# EAGLE library part EZ-USB-2131Q (library cypress)
Microcontroller with USB port
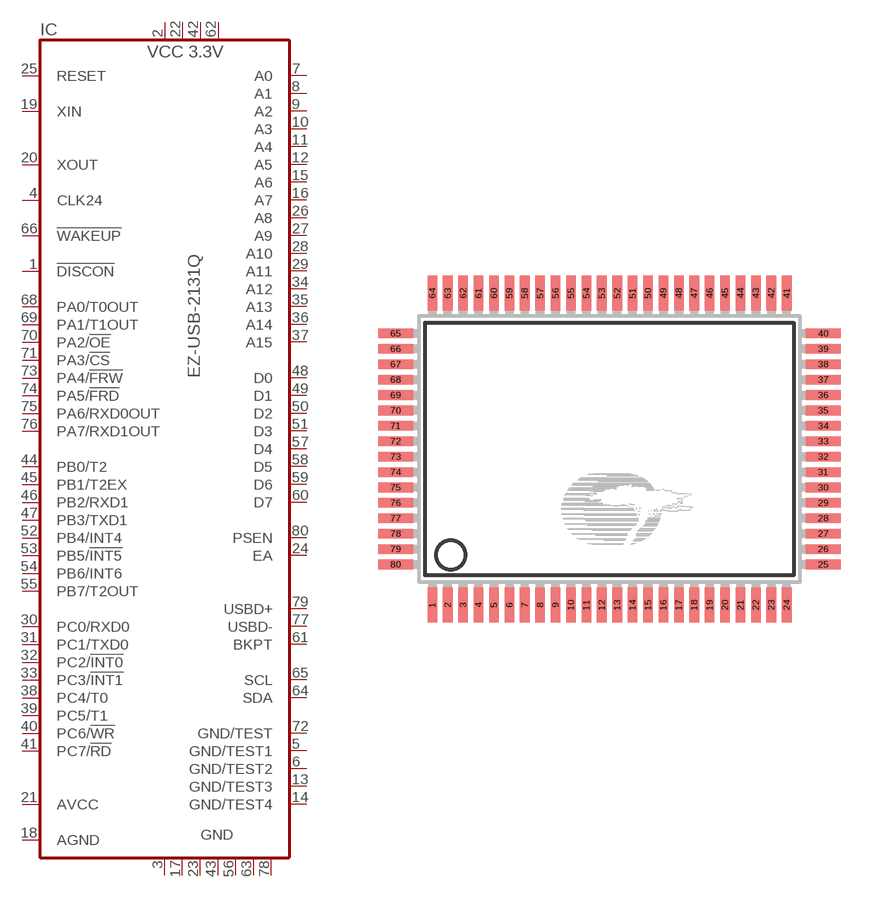
[diagram p0: symbol with the pads of PQFP80; footprint PQFP80]

Designator prefix IC

## EZ-USB-2131Q (OC_FARNELL: unknown; OC_NEWARK: unknown)  [PQFP80]
1  !DISCON  out
2  VCC3.3  pwr
3  GND  pwr
4  CLK24  out
5  GND/TEST1  pwr
6  GND/TEST2  pwr
7  A0  out
8  A1  out
9  A2  out
10  A3  out
11  A4  out
12  A5  out
13  GND/TEST3  pwr
14  GND/TEST4  pwr
15  A6  out
16  A7  out
17  GND  pwr
18  AGND  pwr
19  XIN  in
20  XOUT  out
21  AVCC  pwr
22  VCC3.3  pwr
23  GND  pwr
24  EA  in
25  RESET  in
26  A8  out
27  A9  out
28  A10  out
29  A11  out
30  PC0/RXD0
31  PC1/TXD0
32  PC2/!INT0
33  PC3/!INT1
34  A12  out
35  A13  out
36  A14  out
37  A15  out
38  PC4/T0
39  PC5/T1
40  PC6/!WR
41  PC7/!RD
42  VCC3.3  pwr
43  GND  pwr
44  PB0/T2
45  PB1/T2EX
46  PB2/RXD1
47  PB3/TXD1
48  D0  hiz
49  D1  hiz
50  D2  hiz
51  D3  hiz
52  PB4/INT4
53  PB5/!INT5
54  PB6/INT6
55  PB7/T2OUT
56  GND  pwr
57  D4  hiz
58  D5  hiz
59  D6  hiz
60  D7  hiz
61  BKPT  out
62  VCC3.3  pwr
63  GND  pwr
64  SDA  oc
65  SCL  oc
66  !WAKEUP  in
68  PA0/T0OUT
69  PA1/T1OUT
70  PA2/!OE
71  PA3/!CS
72  GND/TEST  pwr
73  PA4/!FRW
74  PA5/!FRD
75  PA6/RXD0OUT
76  PA7/RXD1OUT
77  USBD-  hiz
78  GND  pwr
79  USBD+  hiz
80  PSEN  out

## Footprint PQFP80 (pad centres in mm)
Plastic Quad Flat Package from micro-philips.lbr
smd 0.5 x 1.8: 1 -9.2,-8.1; 2 -8.4,-8.1; 3 -7.6,-8.1; 4 -6.8,-8.1; 5 -6,-8.1; 6 -5.2,-8.1; 7 -4.4,-8.1; 8 -3.6,-8.1; 9 -2.8,-8.1; 10 -2,-8.1; 11 -1.2,-8.1; 12 -0.4,-8.1; 13 0.4,-8.1; 14 1.2,-8.1; 15 2,-8.1; 16 2.8,-8.1; 17 3.6,-8.1; 18 4.4,-8.1; 19 5.2,-8.1; 20 6,-8.1; 21 6.8,-8.1; 22 7.6,-8.1; 23 8.4,-8.1; 24 9.2,-8.1; 41 9.2,8.1; 42 8.4,8.1; 43 7.6,8.1; 44 6.8,8.1; 45 6,8.1; 46 5.2,8.1; 47 4.4,8.1; 48 3.6,8.1; 49 2.8,8.1; 50 2,8.1; 51 1.2,8.1; 52 0.4,8.1; 53 -0.4,8.1; 54 -1.2,8.1; 55 -2,8.1; 56 -2.8,8.1; 57 -3.6,8.1; 58 -4.4,8.1; 59 -5.2,8.1; 60 -6,8.1; 61 -6.8,8.1; 62 -7.6,8.1; 63 -8.4,8.1; 64 -9.2,8.1
smd 1.8 x 0.5: 25 11.1,-6; 26 11.1,-5.2; 27 11.1,-4.4; 28 11.1,-3.6; 29 11.1,-2.8; 30 11.1,-2; 31 11.1,-1.2; 32 11.1,-0.4; 33 11.1,0.4; 34 11.1,1.2; 35 11.1,2; 36 11.1,2.8; 37 11.1,3.6; 38 11.1,4.4; 39 11.1,5.2; 40 11.1,6; 65 -11.1,6; 66 -11.1,5.2; 67 -11.1,4.4; 68 -11.1,3.6; 69 -11.1,2.8; 70 -11.1,2; 71 -11.1,1.2; 72 -11.1,0.4; 73 -11.1,-0.4; 74 -11.1,-1.2; 75 -11.1,-2; 76 -11.1,-2.8; 77 -11.1,-3.6; 78 -11.1,-4.4; 79 -11.1,-5.2; 80 -11.1,-6